# EAGLE library part EM3242 (library 1AA_Stofer)
AsahiKasei single chip hall effect rotary encoder with DC out
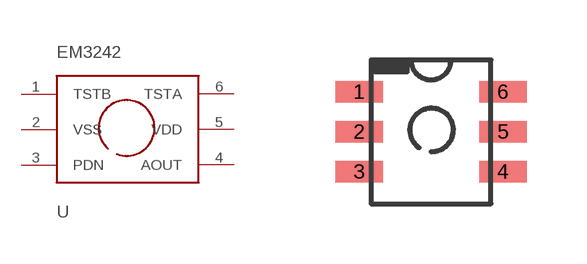
[diagram p33: symbol with the pads of EM3242_SPECIAL; footprint EM3242_SPECIAL]

Designator prefix -

## EM3242  [EM3242_SPECIAL]
1  TSTB
2  VSS
3  PDN
4  AOUT
5  VDD
6  TSTA

## Footprint EM3242_SPECIAL (pad centres in mm)
smd 1.194 x 0.533: 1 -0.3,2; 2 -0.3,1; 3 -0.3,0; 4 3.3,0; 5 3.3,1; 6 3.3,2